# EAGLE library part BA6125 (library mita-akiba)
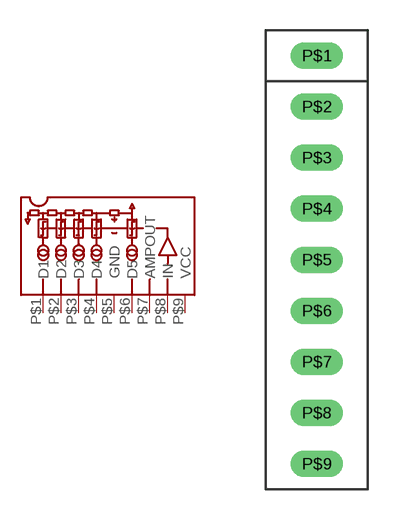
[diagram p46: symbol with the pads of SIL9P; footprint SIL9P]

Designator prefix -

## BA6125  [SIL9P]
P$1  D1
P$2  D2
P$3  D3
P$4  D4
P$5  GND
P$6  D5
P$7  AMPOUT
P$8  IN
P$9  VCC

## Footprint SIL9P (pad centres in mm)
drill 0.8 long: P$1 0,10.16; P$2 0,7.62; P$3 0,5.08; P$4 0,2.54; P$5 0,0; P$6 0,-2.54; P$7 0,-5.08; P$8 0,-7.62; P$9 0,-10.16